# EAGLE library part M20-7830446 (library M20-7830446)
M20 Socket,Dil,Vertical,2X4W,2.54Mm HARWIN 2.54mm 8 Way 2 Row Straight PCB Socket Through Hole Socket Strip Source: Datasheet <https://cdn.harwin.com/pdfs/M20-783.pdf>
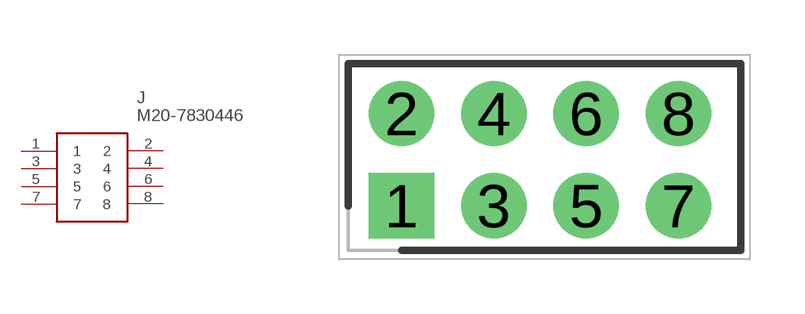
[diagram p0: symbol with the pads of RHDR8W70P254X254_2X4_1056X500X; footprint RHDR8W70P254X254_2X4_1056X500X]

Designator prefix J

## M20-7830446 (Description: M20 Socket,Dil,Vertical,2X4W,2.54Mm HARWIN 2.54mm 8 Way 2 Row Straight PCB Socket Through Hole Socket Strip; Height: 8.65mm; Manufacturer_Name: Harwin; Manufacturer_Part_Number: M20-7830446; Mouser_Part_Number: 855-M20-7830446; Mouser_Price-Stock: https://www.mouser.co.uk/ProductDetail/Harwin/M20-7830446?qs=vF78I%252BjhbY%2FEi6Q%2F1EBREA%3D%3D)  [RHDR8W70P254X254_2X4_1056X500X]
1  1
2  2
3  3
4  4
5  5
6  6
7  7
8  8

## Footprint RHDR8W70P254X254_2X4_1056X500X (pad centres in mm)
M20-7830446_2020
drill 1.2 pad 1.8 square: 1 0,0
drill 1.2 pad 1.8: 2 0,2.54; 3 2.54,0; 4 2.54,2.54; 5 5.08,0; 6 5.08,2.54; 7 7.62,0; 8 7.62,2.54